# Altium schematic symbol library 2021-03-09_02-20-10.SchLib: 2 symbols
Pins are listed as number, name and electrical type; pins without a type are passive.

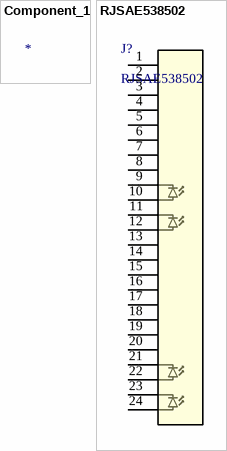
[diagram p0: symbols Component_1 to RJSAE538502]

## Component_1
designator *  (value not drawn)

## RJSAE538502
designator J?
No Description Available; Vendor: Amphenol; Built_By: EMA_Cory; SourceLibrary: Add_to_database_2021-03-02; Manufacturer_Part_Number: RJSAE538502; Copyright: Copyright (C) 2018 Accelerated Designs. All rights reserved; Datasheet: https://cdn.amphenol-icc.com/media/wysiwyg/files/drawing/rjsaex38x02x.pdf; RefDes: RefDes; Type: DEV
footprint CONN_RJSAE538502_AMP
pins: 1, 2, 3, 4, 5, 6, 7, 8, 9, 10, 11, 12, 13, 14, 15, 16, 17, 18, 19, 20, 21, 22, 23, 24